# Altium footprint library WCAP-FTBE.PcbLib: 17 footprints (part 1 of 2)
Each footprint in its own frame and in the unit in brackets; x right, y up, seen from the top. Pads: shape width x height; smd on the part's side, far side on the other; paste and mask are expansions set on the pad; w line width, h text height; cw(c..) or ccw(c..) is an arc to the next point about the centre after c.
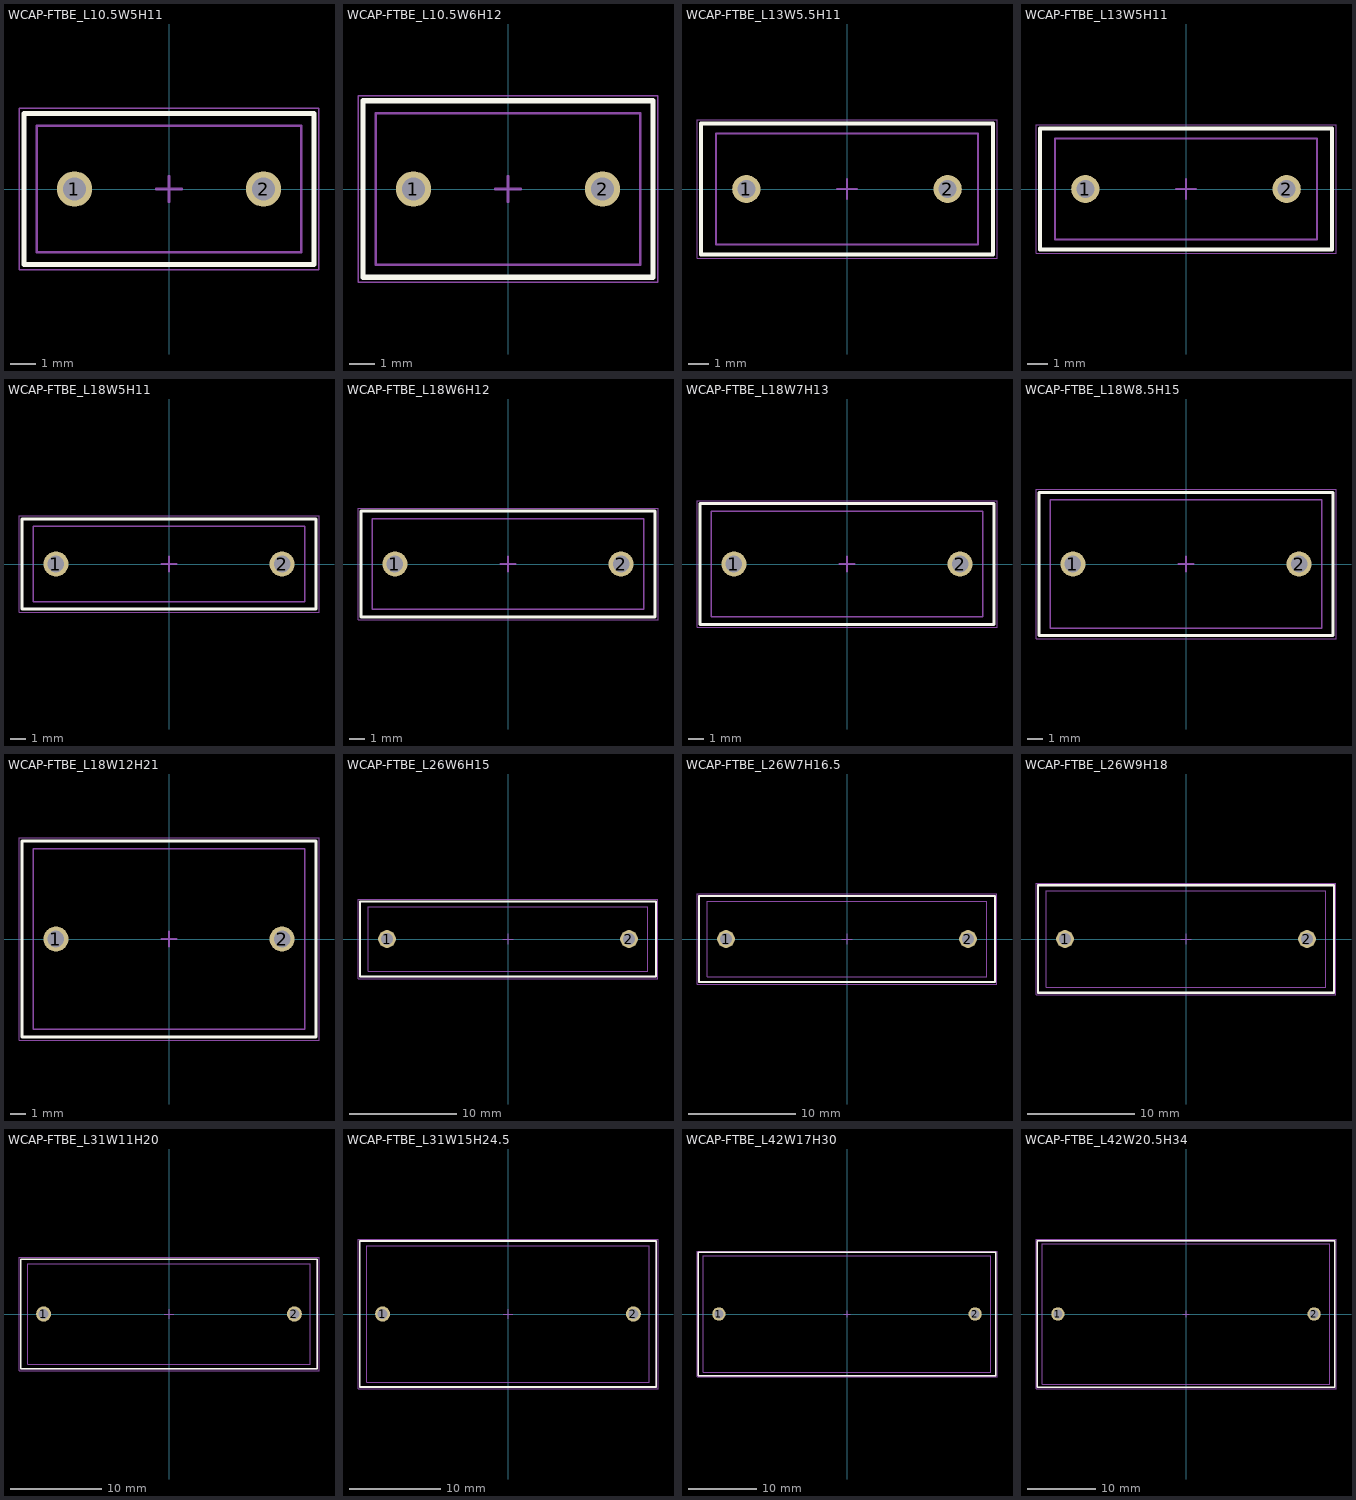
[diagram p0: the footprints below, top view; thin cyan lines are the x and y axes]

## WCAP-FTBE_L10.5W5H11 [mm] "THT Film Capacitors, body 10.5x5mm"
height 11
pads (2):
  round 1.4 hole 0.9: 1(-3.75,0) 2(3.75,0)
Top Overlay:
  lines w0.2: -5.75,-3 -5.75,3 5.75,3 5.75,-3 -5.75,-3
V Cut:
  lines w0.1: -5.75,-3 -5.75,3 5.75,3 5.75,-3 -5.75,-3
Top Designator:
  text ".Designator" at -3.647,-0.357 h1
Top 3D Body:
  lines w0.1: -5.25,-2.5 -5.25,2.5 5.25,2.5 5.25,-2.5 -5.25,-2.5
Top Courtyard:
  lines w0.05: -5.95,-3.2 -5.95,3.2 5.95,3.2 5.95,-3.2 -5.95,-3.2
Top Component Center:
  lines w0.1: -0.5,0 0.5,0 ; 0,-0.5 0,0.5
3D body "7,5x10,5x5x11.stp": height 11.05, standoff -3.95, extent -5.25,-2.5 5.25,2.5

## WCAP-FTBE_L10.5W6H12 [mm] "THT Film Capacitors, body 10.5x6mm"
height 12
pads (2):
  round 1.4 hole 0.9: 1(-3.75,0) 2(3.75,0)
Top Overlay:
  lines w0.2: -5.75,-3.5 -5.75,3.5 5.75,3.5 5.75,-3.5 -5.75,-3.5
V Cut:
  lines w0.1: -5.75,-3.5 -5.75,3.5 5.75,3.5 5.75,-3.5 -5.75,-3.5
Top Designator:
  text ".Designator" at -3.647,-0.357 h1
Top 3D Body:
  lines w0.1: -5.25,-3 5.25,-3 5.25,3 -5.25,3 -5.25,-3
Top Courtyard:
  lines w0.05: -5.95,-3.7 5.95,-3.7 5.95,3.7 -5.95,3.7 -5.95,-3.7
Top Component Center:
  lines w0.1: -0.5,0 0.5,0 ; 0,-0.5 0,0.5
3D body "7,5x10,5x6x12.stp": height 12.05, standoff -3.95, extent -5.25,-3 5.25,3

## WCAP-FTBE_L13W5.5H11 [mm] "THT Film Capacitors, body 13x5.5mm"
height 11
pads (2):
  round 1.4 hole 0.9: 1(-5,0) 2(5,0)
Top Overlay:
  lines w0.2: -7.25,-3.25 -7.25,3.25 7.25,3.25 7.25,-3.25 -7.25,-3.25
V Cut:
  lines w0.1: -7.25,-3.25 -7.25,3.25 7.25,3.25 7.25,-3.25 -7.25,-3.25
Top Designator:
  text ".Designator" at -3.647,-0.357 h1
Top 3D Body:
  lines w0.1: -6.5,-2.75 6.5,-2.75 6.5,2.75 -6.5,2.75 -6.5,-2.75
Top Courtyard:
  lines w0.05: -7.45,-3.45 7.45,-3.45 7.45,3.45 -7.45,3.45 -7.45,-3.45
Top Component Center:
  lines w0.1: -0.5,0 0.5,0 ; 0,-0.5 0,0.5
3D body "10x13x5,5x11.stp": height 11.05, standoff -3.95, extent -6.5,-2.75 6.5,2.75

## WCAP-FTBE_L13W5H11 [mm] "THT Film Capacitors, body 13x5mm"
height 11
pads (2):
  round 1.4 hole 0.9: 1(-5,0) 2(5,0)
Top Overlay:
  lines w0.2: -7.25,-3 -7.25,3 7.25,3 7.25,-3 -7.25,-3
V Cut:
  lines w0.1: -7.25,-3 -7.25,3 7.25,3 7.25,-3 -7.25,-3
Top Designator:
  text ".Designator" at -3.647,-0.357 h1
Top 3D Body:
  lines w0.1: -6.5,-2.5 6.5,-2.5 6.5,2.5 -6.5,2.5 -6.5,-2.5
Top Courtyard:
  lines w0.05: -7.45,-3.2 -7.45,3.2 7.45,3.2 7.45,-3.2 -7.45,-3.2
Top Component Center:
  lines w0.1: -0.5,0 0.5,0 ; 0,-0.5 0,0.5
3D body "10x13x5x11.stp": height 11.05, standoff -3.95, extent -6.5,-2.5 6.5,2.5

## WCAP-FTBE_L18W5H11 [mm] "THT Film Capacitors, body 18x5mm"
height 11
pads (2):
  round 1.65 hole 1.1: 1(-7.5,0) 2(7.5,0)
Top Overlay:
  lines w0.2: -9.75,-3 -9.75,3 9.75,3 9.75,-3 -9.75,-3
V Cut:
  lines w0.1: -9.75,-3 -9.75,3 9.75,3 9.75,-3 -9.75,-3
Top Designator:
  text ".Designator" at -3.647,-0.357 h1
Top 3D Body:
  lines w0.1: -9,-2.5 9,-2.5 9,2.5 -9,2.5 -9,-2.5
Top Courtyard:
  lines w0.05: -9.95,-3.2 -9.95,3.2 9.95,3.2 9.95,-3.2 -9.95,-3.2
Top Component Center:
  lines w0.1: -0.5,0 0.5,0 ; 0,-0.5 0,0.5
3D body "15x18x5x11.stp": height 11.05, standoff -3.95, extent -9,-2.5 9,2.5

## WCAP-FTBE_L18W6H12 [mm] "THT Film Capacitors, body 18x6mm"
height 12
pads (2):
  round 1.65 hole 1.1: 1(-7.5,0) 2(7.5,0)
Top Overlay:
  lines w0.2: -9.75,-3.5 9.75,-3.5 9.75,3.5 -9.75,3.5 -9.75,-3.5
V Cut:
  lines w0.1: -9.75,-3.5 9.75,-3.5 9.75,3.5 -9.75,3.5 -9.75,-3.5
Top Designator:
  text ".Designator" at -3.647,-0.357 h1
Top 3D Body:
  lines w0.1: -9,-3 9,-3 9,3 -9,3 -9,-3
Top Courtyard:
  lines w0.05: -9.95,-3.7 9.95,-3.7 9.95,3.7 -9.95,3.7 -9.95,-3.7
Top Component Center:
  lines w0.1: -0.5,0 0.5,0 ; 0,-0.5 0,0.5
3D body "15x18x6x12.stp": height 12.05, standoff -3.95, extent -9,-3 9,3

## WCAP-FTBE_L18W7H13 [mm] "THT Film Capacitors, body 18x7mm"
height 13
pads (2):
  round 1.65 hole 1.1: 1(-7.5,0) 2(7.5,0)
Top Overlay:
  lines w0.2: -9.75,-4 -9.75,4 9.75,4 9.75,-4 -9.75,-4
V Cut:
  lines w0.1: -9.75,-4 -9.75,4 9.75,4 9.75,-4 -9.75,-4
Top Designator:
  text ".Designator" at -3.647,-0.357 h1
Top 3D Body:
  lines w0.1: -9,-3.5 -9,3.5 9,3.5 9,-3.5 -9,-3.5
Top Courtyard:
  lines w0.05: -9.95,-4.2 -9.95,4.2 9.95,4.2 9.95,-4.2 -9.95,-4.2
Top Component Center:
  lines w0.1: -0.5,0 0.5,0 ; 0,-0.5 0,0.5
3D body "15x18x7x13.stp": height 13.05, standoff -3.95, extent -9,-3.5 9,3.5

## WCAP-FTBE_L18W8.5H15 [mm] "THT Film Capacitors, body 18x8.5mm"
height 15
pads (2):
  round 1.65 hole 1.1: 1(-7.5,0) 2(7.5,0)
Top Overlay:
  lines w0.2: -9.75,-4.75 9.75,-4.75 9.75,4.75 -9.75,4.75 -9.75,-4.75
V Cut:
  lines w0.1: -9.75,-4.75 9.75,-4.75 9.75,4.75 -9.75,4.75 -9.75,-4.75
Top Designator:
  text ".Designator" at -3.647,-0.357 h1
Top 3D Body:
  lines w0.1: -9,-4.25 9,-4.25 9,4.25 -9,4.25 -9,-4.25
Top Courtyard:
  lines w0.05: -9.95,-4.95 9.95,-4.95 9.95,4.95 -9.95,4.95 -9.95,-4.95
Top Component Center:
  lines w0.1: -0.5,0 0.5,0 ; 0,-0.5 0,0.5
3D body "15x18x8,5x15.stp": height 15.05, standoff -3.95, extent -9,-4.25 9,4.25

## WCAP-FTBE_L18W12H21 [mm] "THT Film Capacitors, body 18x12mm"
height 21
pads (2):
  round 1.65 hole 1.1: 1(-7.5,0) 2(7.5,0)
Top Overlay:
  lines w0.2: -9.75,-6.5 9.75,-6.5 9.75,6.5 -9.75,6.5 -9.75,-6.5
V Cut:
  lines w0.1: -9.75,-6.5 9.75,-6.5 9.75,6.5 -9.75,6.5 -9.75,-6.5
Top Designator:
  text ".Designator" at -3.647,-0.357 h1
Top 3D Body:
  lines w0.1: -9,-6 9,-6 9,6 -9,6 -9,-6
Top Courtyard:
  lines w0.05: -9.95,-6.7 9.95,-6.7 9.95,6.7 -9.95,6.7 -9.95,-6.7
Top Component Center:
  lines w0.1: -0.5,0 0.5,0 ; 0,-0.5 0,0.5
3D body "15x18x12x21.stp": height 21.05, standoff -3.95, extent -9,-6 9,6

## WCAP-FTBE_L26W6H15 [mm] "THT Film Capacitors, body 26x6mm"
height 15
pads (2):
  round 1.65 hole 1.1: 1(-11.25,0) 2(11.25,0)
Top Overlay:
  lines w0.2: -13.75,-3.5 -13.75,3.5 13.75,3.5 13.75,-3.5 -13.75,-3.5
V Cut:
  lines w0.1: -13.75,-3.5 -13.75,3.5 13.75,3.5 13.75,-3.5 -13.75,-3.5
Top Designator:
  text ".Designator" at -3.647,-0.357 h1
Top 3D Body:
  lines w0.1: -13,-3 -13,3 13,3 13,-3 -13,-3
Top Courtyard:
  lines w0.05: -13.95,-3.7 -13.95,3.7 13.95,3.7 13.95,-3.7 -13.95,-3.7
Top Component Center:
  lines w0.1: -0.5,0 0.5,0 ; 0,-0.5 0,0.5
3D body "22,5x26x6x15.stp": height 15.05, standoff -3.95, extent -13,-3 13,3

## WCAP-FTBE_L26W7H16.5 [mm] "THT Film Capacitors, body 26x7mm"
height 16.5
pads (2):
  round 1.65 hole 1.1: 1(-11.25,0) 2(11.25,0)
Top Overlay:
  lines w0.2: -13.75,-4 13.75,-4 13.75,4 -13.75,4 -13.75,-4
V Cut:
  lines w0.1: -13.75,-4 13.75,-4 13.75,4 -13.75,4 -13.75,-4
Top Designator:
  text ".Designator" at -3.647,-0.357 h1
Top 3D Body:
  lines w0.1: -13,-3.5 -13,3.5 13,3.5 13,-3.5 -13,-3.5
Top Courtyard:
  lines w0.05: -13.95,-4.2 13.95,-4.2 13.95,4.2 -13.95,4.2 -13.95,-4.2
Top Component Center:
  lines w0.1: -0.5,0 0.5,0 ; 0,-0.5 0,0.5
3D body "22,5x26x7x16,5.stp": height 16.55, standoff -3.95, extent -13,-3.5 13,3.5

## WCAP-FTBE_L26W9H18 [mm] "THT Film Capacitors, body 26x9mm"
height 18
pads (2):
  round 1.65 hole 1.1: 1(-11.25,0) 2(11.25,0)
Top Overlay:
  lines w0.2: -13.75,-5 -13.75,5 13.75,5 13.75,-5 -13.75,-5
V Cut:
  lines w0.1: -13.75,-5 -13.75,5 13.75,5 13.75,-5 -13.75,-5
Top Designator:
  text ".Designator" at -3.647,-0.357 h1
Top 3D Body:
  lines w0.1: -13,-4.5 13,-4.5 13,4.5 -13,4.5 -13,-4.5
Top Courtyard:
  lines w0.05: -13.95,-5.2 -13.95,5.2 13.95,5.2 13.95,-5.2 -13.95,-5.2
Top Component Center:
  lines w0.1: -0.5,0 0.5,0 ; 0,-0.5 0,0.5
3D body "22,5x26x9x18.stp": height 18.05, standoff -3.95, extent -13,-4.5 13,4.5

## WCAP-FTBE_L31W11H20 [mm] "THT Film Capacitors, body 31x11mm"
height 20
pads (2):
  round 1.65 hole 1.1: 1(-13.75,0) 2(13.75,0)
Top Overlay:
  lines w0.2: -16.25,-6 16.25,-6 16.25,6 -16.25,6 -16.25,-6
V Cut:
  lines w0.1: -16.25,-6 16.25,-6 16.25,6 -16.25,6 -16.25,-6
Top Designator:
  text ".Designator" at -3.647,-0.357 h1
Top 3D Body:
  lines w0.1: -15.5,-5.5 15.5,-5.5 15.5,5.5 -15.5,5.5 -15.5,-5.5
Top Courtyard:
  lines w0.05: -16.45,-6.2 16.45,-6.2 16.45,6.2 -16.45,6.2 -16.45,-6.2
Top Component Center:
  lines w0.1: -0.5,0 0.5,0 ; 0,-0.5 0,0.5
3D body "27,5x31x11x20.stp": height 20.05, standoff -3.95, extent -15.5,-5.5 15.5,5.5

## WCAP-FTBE_L31W15H24.5 [mm] "THT Film Capacitors, body 31x15mm"
height 24.5
pads (2):
  round 1.65 hole 1.1: 1(-13.75,0) 2(13.75,0)
Top Overlay:
  lines w0.2: -16.25,-8 16.25,-8 16.25,8 -16.25,8 -16.25,-8
V Cut:
  lines w0.1: -16.25,-8 16.25,-8 16.25,8 -16.25,8 -16.25,-8
Top Designator:
  text ".Designator" at -3.647,-0.357 h1
Top 3D Body:
  lines w0.1: -15.5,-7.5 15.5,-7.5 15.5,7.5 -15.5,7.5 -15.5,-7.5
Top Courtyard:
  lines w0.05: -16.45,-8.2 16.45,-8.2 16.45,8.2 -16.45,8.2 -16.45,-8.2
Top Component Center:
  lines w0.1: -0.5,0 0.5,0 ; 0,-0.5 0,0.5
3D body "27,5x31x15x24,5.stp": height 24.55, standoff -3.95, extent -15.5,-7.5 15.5,7.5

## WCAP-FTBE_L42W17H30 [mm] "THT Film Capacitors, body 42x17mm"
height 30
pads (2):
  round 1.95 hole 1.3: 1(-18.75,0) 2(18.75,0)
Top Overlay:
  lines w0.2: -21.75,-9 21.75,-9 21.75,9 -21.75,9 -21.75,-9
V Cut:
  lines w0.1: -21.75,-9 21.75,-9 21.75,9 -21.75,9 -21.75,-9
Top Designator:
  text ".Designator" at -3.647,-0.357 h1
Top 3D Body:
  lines w0.1: -21,-8.5 -21,8.5 21,8.5 21,-8.5 -21,-8.5
Top Courtyard:
  lines w0.05: -21.95,-9.2 21.95,-9.2 21.95,9.2 -21.95,9.2 -21.95,-9.2
Top Component Center:
  lines w0.1: -0.5,0 0.5,0 ; 0,-0.5 0,0.5
3D body "37,5x42x17x30.stp": height 30.05, standoff -3.95, extent -21,-8.5 21,8.5

## WCAP-FTBE_L42W20.5H34 [mm] "THT Film Capacitors, body 42x20.5mm"
height 34
pads (2):
  round 1.95 hole 1.3: 1(-18.75,0) 2(18.75,0)
Top Overlay:
  lines w0.2: -21.75,-10.75 21.75,-10.75 21.75,10.75 -21.75,10.75 -21.75,-10.75
V Cut:
  lines w0.1: -21.75,-10.75 21.75,-10.75 21.75,10.75 -21.75,10.75 -21.75,-10.75
Top Designator:
  text ".Designator" at -3.647,-0.357 h1
Top 3D Body:
  lines w0.1: -21,-10.25 -21,10.25 21,10.25 21,-10.25 -21,-10.25
Top Courtyard:
  lines w0.05: -21.95,-10.95 21.95,-10.95 21.95,10.95 -21.95,10.95 -21.95,-10.95
Top Component Center:
  lines w0.1: -0.5,0 0.5,0 ; 0,-0.5 0,0.5
3D body "37,5x42x20,5x34.stp": height 34.05, standoff -3.95, extent -21,-10.25 21,10.25